# Altium footprint library Microshemy.PcbLib: 30 footprints (part 2 of 2)
Each footprint in its own frame and in the unit in brackets; x right, y up, seen from the top. Pads: shape width x height; smd on the part's side, far side on the other; paste and mask are expansions set on the pad; w line width, h text height; cw(c..) or ccw(c..) is an arc to the next point about the centre after c.
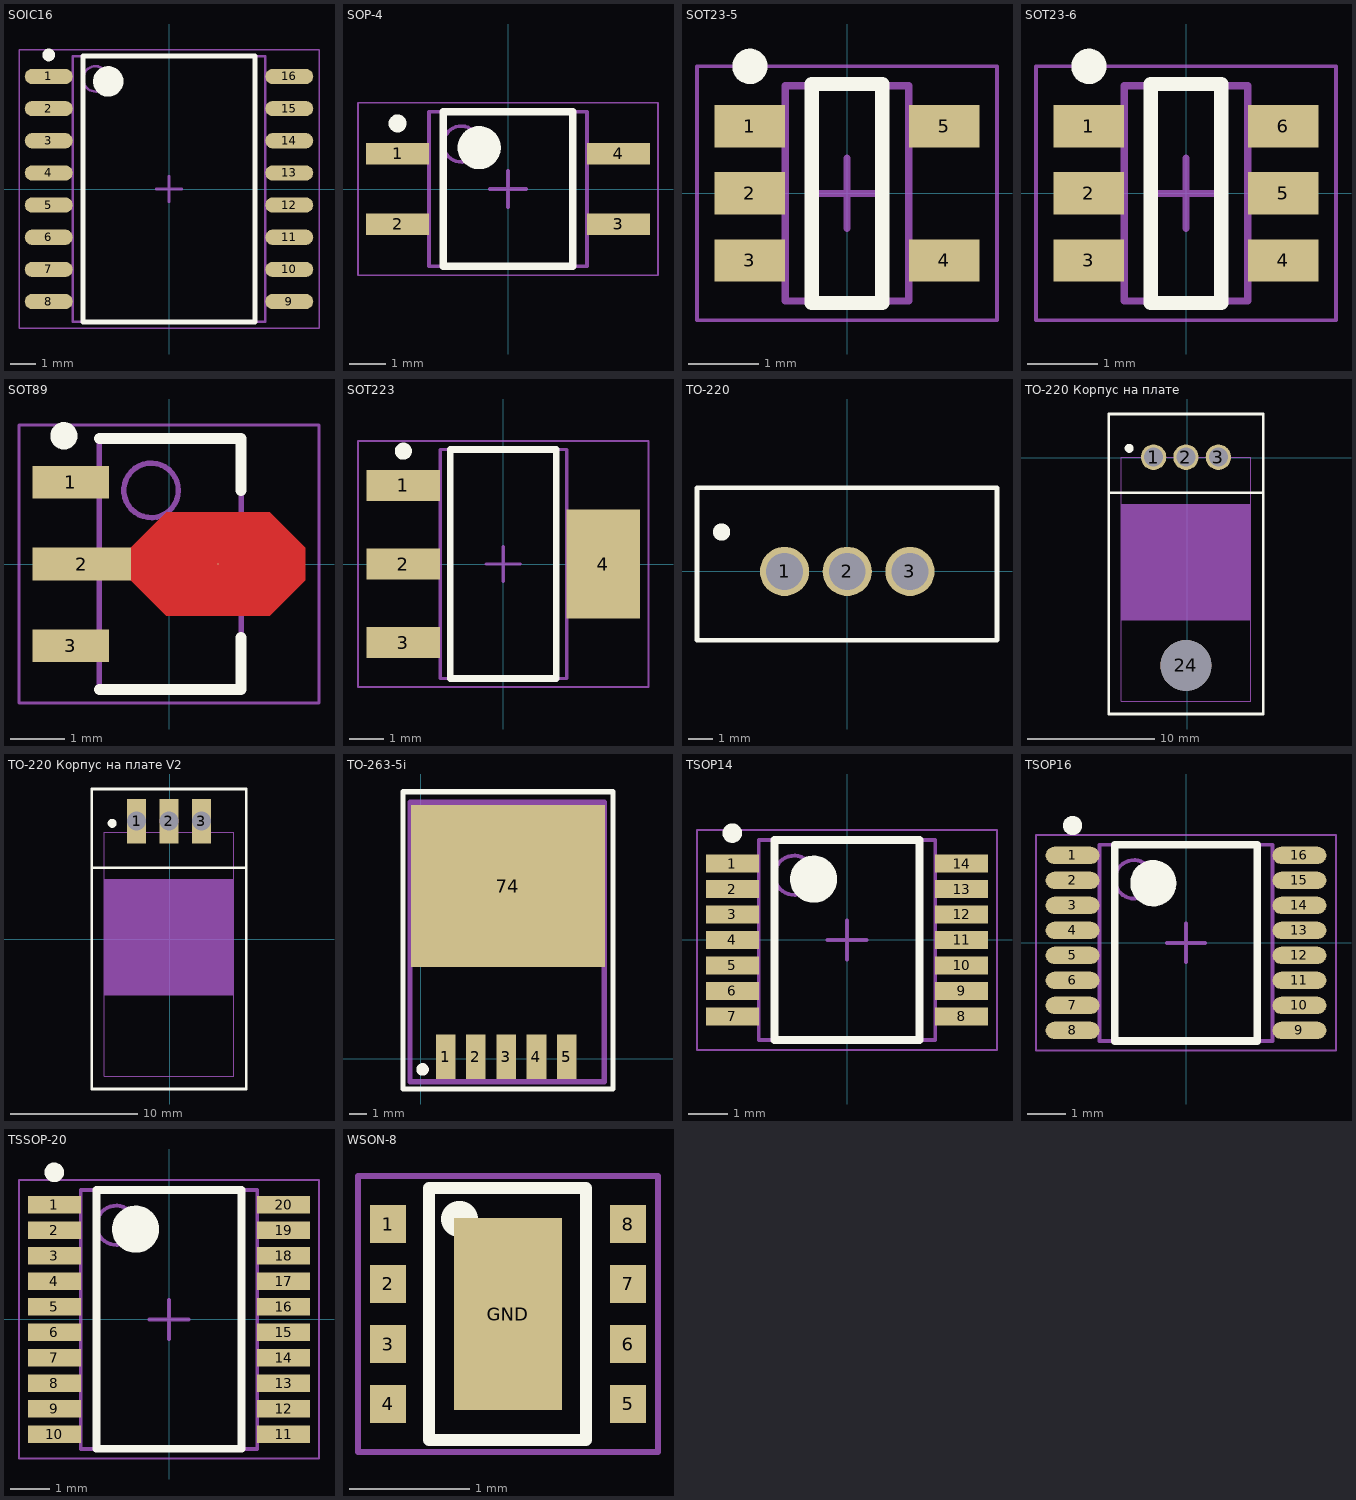
[diagram p1: the footprints below, top view; thin cyan lines are the x and y axes]

## SOIC16 [mm]
height 2.6
pads (16):
  oval 1.9x0.6 smd: 1(-4.75,4.445) 2(-4.75,3.175) 3(-4.75,1.905) 4(-4.75,0.635) 5(-4.75,-0.635) 6(-4.75,-1.905) 7(-4.75,-3.175) 8(-4.75,-4.445) 9(4.75,-4.445) 10(4.75,-3.175) 11(4.75,-1.905) 12(4.75,-0.635) 13(4.75,0.635) 14(4.75,1.905) 15(4.75,3.175) 16(4.75,4.445)
Top Overlay:
  circle w0.6: c-2.4,4.25 r0.3
  circle w0.25: c-4.75,5.295 r0.125
  lines w0.2: -3.4,-5.25 3.4,-5.25 3.4,5.25 -3.4,5.25 -3.4,-5.25
Mechanical 13:
  circle w0.1: c-2.9,4.35 r0.5
  lines w0.1: -3.8,-5.25 3.8,-5.25 3.8,5.25 -3.8,5.25 -3.8,-5.25
Mechanical 15:
  lines w0.05: -5.925,-5.5 5.925,-5.5 5.925,5.5 -5.925,5.5 -5.925,-5.5
  lines w0.1: -0.5,0 0.5,0 ; 0,-0.5 0,0.5
3D body "SOIC127P600-8N.step": height 2.6, standoff 0, extent -5.162,-5.25 5.162,5.25

## SOP-4 [mm] "SOP, 4-Leads, Body 4,10x4,40mm, Pitch 1,95mm, IPC Medium Density"
height 2
pads (4):
  rect 1.75x0.6 smd: 1(-3.075,0.975) 2(-3.075,-0.975) 3(3.075,-0.975) 4(3.075,0.975)
Top Overlay:
  circle w0.6: c-0.8,1.15 r0.3
  circle w0.25: c-3.075,1.825 r0.125
  lines w0.2: -1.8,-2.15 1.8,-2.15 1.8,2.15 -1.8,2.15 -1.8,-2.15
Mechanical 13:
  circle w0.1: c-1.3,1.25 r0.5
  lines w0.1: -2.2,-2.15 2.2,-2.15 2.2,2.15 -2.2,2.15 -2.2,-2.15
Mechanical 15:
  lines w0.05: -4.175,-2.4 4.175,-2.4 4.175,2.4 -4.175,2.4 -4.175,-2.4
  lines w0.1: -0.5,0 0.5,0 ; 0,-0.5 0,0.5
3D body "SOP195P700X200-4N.step": height 2, standoff 0, extent -3.5,-2.15 3.5,2.15

## SOT23-5 [mm]
height 1
pads (5):
  rect 1x0.6 smd: 1(-1.375,0.95) 2(-1.375,0) 3(-1.375,-0.95) 4(1.375,-0.95) 5(1.375,0.95)
Top Overlay:
  circle w0.25: c-1.375,1.8 r0.125
  lines w0.2: -0.5,-1.55 -0.5,1.55 0.5,1.55 0.5,-1.55 -0.5,-1.55
Mechanical 13:
  lines w0.1: -0.875,-1.525 0.875,-1.525 0.875,1.525 -0.875,1.525 -0.875,-1.525
Mechanical 15:
  lines w0.05: -2.125,-1.8 2.125,-1.8 2.125,1.8 -2.125,1.8 -2.125,-1.8
  lines w0.1: -0.5,0 0.5,0 ; 0,-0.5 0,0.5
3D body "SOT23127P600-8N.step": height 1, standoff 0, extent -1.525,-1.525 1.525,1.525

## SOT23-6 [mm]
height 1
pads (6):
  rect 1x0.6 smd: 1(-1.375,0.95) 2(-1.375,0) 3(-1.375,-0.95) 4(1.375,-0.95) 5(1.375,0) 6(1.375,0.95)
Top Overlay:
  circle w0.25: c-1.375,1.8 r0.125
  lines w0.2: -0.5,-1.55 -0.5,1.55 0.5,1.55 0.5,-1.55 -0.5,-1.55
Mechanical 13:
  lines w0.1: -0.875,-1.525 0.875,-1.525 0.875,1.525 -0.875,1.525 -0.875,-1.525
Mechanical 15:
  lines w0.05: -2.125,-1.8 2.125,-1.8 2.125,1.8 -2.125,1.8 -2.125,-1.8
  lines w0.1: -0.5,0 0.5,0 ; 0,-0.5 0,0.5
3D body "SOT23127P600-8N.step": height 1, standoff 0, extent -1.525,-1.525 1.525,1.525

## SOT89 [mm] "SOT89, 3-Leads, Body 4,50x2,45mm, Pitch 1,50mm, Lead Span 4,1mm, IPC Medium Density"
height 1.6
pads (4):
  rect 1.4x0.6 smd: 1(-1.8,1.5) 3(-1.8,-1.5)
  rect 1.8x0.6 smd: 2(-1.6,0)
  round 0.025 smd mask+0.102: 2(0.9,0)
Top Layer:
  region: -0.7,0.3 -0.05,0.95 1.85,0.95 2.5,0.3 2.5,-0.3 1.85,-0.95 -0.05,-0.95 -0.7,-0.3
Top Overlay:
  circle w0.25: c-1.927,2.35 r0.125
  lines w0.2: -1.278,-2.3 1.322,-2.3 1.322,-1.35 ; -1.278,2.3 1.322,2.3 1.322,1.35
Mechanical 13:
  circle w0.1: c-0.327,1.35 r0.5
  lines w0.1: -1.278,-2.3 1.322,-2.3 1.322,2.3 -1.278,2.3 -1.278,-2.3
Mechanical 15:
  lines w0.05: -2.75,-2.55 2.75,-2.55 2.75,2.55 -2.75,2.55 -2.75,-2.55
  lines w0.1: -0.477,0 0.523,0 ; 0.022,-0.5 0.022,0.5
3D body "SOT89-150P410X160-3N.step": height 1.6, standoff 0, extent -2.2,-2.3 1.85,2.3

## SOT223 [mm] "SOT223, 4-Leads, Body 6,50x7,00mm (avg), Pitch 2,30mm, IPC Medium Density"
height 1.8
pads (4):
  rect 2.15x0.9 smd: 1(-2.925,2.3) 2(-2.925,0) 3(-2.925,-2.3)
  rect 2.15x3.2 smd: 4(2.925,0)
Top Overlay:
  circle w0.25: c-2.925,3.3 r0.125
  lines w0.2: -1.55,-3.35 1.55,-3.35 1.55,3.35 -1.55,3.35 -1.55,-3.35
Mechanical 13:
  lines w0.1: -1.85,-3.35 1.85,-3.35 1.85,3.35 -1.85,3.35 -1.85,-3.35
Mechanical 15:
  lines w0.05: -4.25,-3.6 4.25,-3.6 4.25,3.6 -4.25,3.6 -4.25,-3.6
  lines w0.1: -0.5,0 0.5,0 ; 0,-0.5 0,0.5
3D body "SOT223.step": height 1.8, standoff 0, extent -3.5,-3.35 3.5,3.35

## TO-220 [mm]
pads (3):
  round 2 hole 1.5: 1(-2.54,0) 2(0.01,0) 3(2.56,0)
Top Overlay:
  circle w0.5: c-5.1,1.6 r0.1
  lines w0.2: -6.1,-2.8 -6.1,3.4 6.1,3.4 6.1,-2.8 -6.1,-2.8
3D body: height 3, standoff -2, extent -3.19,-0.25 -1.89,0.25
3D body: height 3, standoff -2, extent 1.89,-0.25 3.19,0.25
3D body: height 3, standoff -2, extent -0.65,-0.25 0.65,0.25

## TO-220 Корпус на плате [mm] "Корпус ледит на плате радиатором сверху"
pads (4):
  round 2 hole 1.5: 1(-2.636,0.039) 2(-0.086,0.039) 3(2.464,0.039)
  round 4 hole 4: 24(-0.091,-16.348)
Top Overlay:
  lines w0.2: -6.176,-20.16 -6.176,-2.761 ; -6.166,-20.17 6.01,-20.17 6.01,-2.761 ; -6.176,-2.761 6.01,-2.761 ; -6.176,-2.761 -6.176,3.439 6.01,3.439 6.01,-2.761
  lines w0.5: -4.467,0.785 ccw(c-4.556,0.739) -4.456,0.739
Mechanical 15:
  pour cut-out: -5.18,-3.66 5.01,-3.66 5.01,-12.75 5,-12.76 -5.18,-12.76
  lines w0.05: 5.01,-3.65 5.01,-12.75 ; -5.18,-12.759 -5.18,-3.66 ; -5.18,-12.76 -5.18,-19.16 5.01,-19.16 5.01,-12.75 ; -5.18,-12.759 5.01,-12.75 ; -5.18,-3.66 -5.18,-2.66 -5.18,0.04 5.01,0.04 5.01,-3.66 -5.18,-3.66
3D body: height 3, standoff -2, extent -0.746,-0.211 0.554,0.289
3D body: height 3, standoff -2, extent 1.794,-0.211 3.094,0.289
3D body: height 3, standoff -2, extent -3.286,-0.211 -1.986,0.289
3D body: height 0.3, standoff 0, extent -5.18,-12.76 5.01,-3.66
3D body: height 0.25, standoff 0, extent -5.18,-19.16 5.01,-12.75

## TO-220 Корпус на плате V2 [mm]
pads (3):
  rect 1.5x3.5 hole 1.5: 1(-2.596,9.299) 2(-0.046,9.299) 3(2.504,9.299)
Top Overlay:
  lines w0.2: -6.136,-11.78 -6.136,5.619 ; -6.126,-11.79 6.05,-11.79 6.05,5.619 ; -6.136,5.619 6.05,5.619 ; -6.136,5.619 -6.136,11.819 6.05,11.819 6.05,5.619
  lines w0.5: -4.427,9.165 ccw(c-4.516,9.119) -4.416,9.119
Mechanical 15:
  pour cut-out: -5.14,4.72 5.05,4.72 5.05,-4.37 5.04,-4.38 -5.14,-4.38
  lines w0.05: -5.14,-4.38 -5.14,-10.78 5.05,-10.78 5.05,-4.37 ; 5.05,4.73 5.05,-4.37 ; -5.14,4.72 -5.14,-4.379 5.05,-4.37 ; -5.14,4.72 -5.14,5.72 -5.14,8.42 5.05,8.42 5.05,4.72 -5.14,4.72
3D body: height 0.3, standoff 0, extent -5.14,-4.38 5.05,4.72
3D body: height 0.25, standoff 0, extent -5.14,-10.78 5.05,-4.37
3D body: height 3, standoff -2, extent -0.706,9.049 0.594,9.549
3D body: height 3, standoff -2, extent 1.834,9.049 3.134,9.549
3D body: height 3, standoff -2, extent -3.246,9.049 -1.946,9.549

## TO-263-5i [mm]
pads (6):
  rect 1.1x2.5 smd: 1(1.4,0.1) 2(3.1,0.1) 3(4.8,0.1) 4(6.5,0.1) 5(8.2,0.1)
  rect 10.9x9.1 smd: 74(4.9,9.7)
Top Overlay:
  circle w0.5: c0.1,-0.6 r0.1
  lines w0.3: -1,-1.7 10.8,-1.7 10.8,15 -1,15 -1,-1.7
Mechanical 15:
  lines w0.3: -0.6,-1.3 10.3,-1.3 10.3,14.4 -0.6,14.4 -0.6,-1.3

## TSOP14 [mm] "TSOP, 14-Leads, Body 5,05x4,40mm, Pitch 0,65mm, IPC Medium Density"
height 1
pads (14):
  rect 1.35x0.45 smd: 1(-2.925,1.95) 2(-2.925,1.3) 3(-2.925,0.65) 4(-2.925,0) 5(-2.925,-0.65) 6(-2.925,-1.3) 7(-2.925,-1.95) 8(2.925,-1.95) 9(2.925,-1.3) 10(2.925,-0.65) 11(2.925,0) 12(2.925,0.65) 13(2.925,1.3) 14(2.925,1.95)
Top Overlay:
  circle w0.25: c-2.925,2.725 r0.125
  circle w0.6: c-0.85,1.55 r0.3
  lines w0.2: -1.85,-2.55 -1.85,2.55 1.85,2.55 1.85,-2.55 -1.85,-2.55
Mechanical 13:
  circle w0.1: c-1.35,1.65 r0.5
  lines w0.1: -2.25,-2.55 -2.25,2.55 2.25,2.55 2.25,-2.55 -2.25,-2.55
Mechanical 15:
  lines w0.05: -3.825,-2.8 -3.825,2.8 3.825,2.8 3.825,-2.8 -3.825,-2.8
  lines w0.1: -0.5,0 0.5,0 ; 0,-0.5 0,0.5
3D body "TSOP14.step": height 1, standoff 0.01, extent -3.148,-2.55 3.148,2.55

## TSOP16 [mm]
height 1.2
pads (16):
  oval 1.4x0.45 smd: 1(-2.95,2.275) 2(-2.95,1.625) 3(-2.95,0.975) 4(-2.95,0.325) 5(-2.95,-0.325) 6(-2.95,-0.975) 7(-2.95,-1.625) 8(-2.95,-2.275) 9(2.95,-2.275) 10(2.95,-1.625) 11(2.95,-0.975) 12(2.95,-0.325) 13(2.95,0.325) 14(2.95,0.975) 15(2.95,1.625) 16(2.95,2.275)
Top Overlay:
  circle w0.6: c-0.85,1.55 r0.3
  circle w0.25: c-2.95,3.05 r0.125
  lines w0.2: -1.85,-2.55 1.85,-2.55 1.85,2.55 -1.85,2.55 -1.85,-2.55
Mechanical 13:
  circle w0.1: c-1.35,1.65 r0.5
  lines w0.1: -2.25,-2.55 2.25,-2.55 2.25,2.55 -2.25,2.55 -2.25,-2.55
Mechanical 15:
  lines w0.05: -3.9,-2.8 3.9,-2.8 3.9,2.8 -3.9,2.8 -3.9,-2.8
  lines w0.1: -0.5,0 0.5,0 ; 0,-0.5 0,0.5
3D body "SOP127P600-8N.step": height 1.2, standoff 0, extent -3.2,-2.55 3.2,2.55

## TSSOP-20 [mm]
height 0.9
pads (20):
  rect 1.35x0.45 smd: 1(-2.925,2.925) 2(-2.925,2.275) 3(-2.925,1.625) 4(-2.925,0.975) 5(-2.925,0.325) 6(-2.925,-0.325) 7(-2.925,-0.975) 8(-2.925,-1.625) 9(-2.925,-2.275) 10(-2.925,-2.925) 11(2.925,-2.925) 12(2.925,-2.275) 13(2.925,-1.625) 14(2.925,-0.975) 15(2.925,-0.325) 16(2.925,0.325) 17(2.925,0.975) 18(2.925,1.625) 19(2.925,2.275) 20(2.925,2.925)
Top Overlay:
  circle w0.25: c-2.925,3.75 r0.125
  circle w0.6: c-0.85,2.3 r0.3
  lines w0.2: -1.85,-3.3 -1.85,3.3 1.85,3.3 1.85,-3.3 -1.85,-3.3
Mechanical 13:
  circle w0.1: c-1.35,2.4 r0.5
  lines w0.1: -2.25,-3.3 -2.25,3.3 2.25,3.3 2.25,-3.3 -2.25,-3.3
Mechanical 15:
  lines w0.05: -3.825,-3.55 -3.825,3.55 3.825,3.55 3.825,-3.55 -3.825,-3.55
  lines w0.1: -0.5,0 0.5,0 ; 0,-0.5 0,0.5
3D body "SOP127P600-8N.step": height 0.9, standoff 0.01, extent -3.148,-3.3 3.148,3.3

## WSON-8 [mm]
pads (9):
  rect 0.3x0.32 / inner round 0 / far side round 0 all layers, no hole mask+0.08: 1(0.5,2.17) 2(0.5,1.67) 3(0.5,1.17) 4(0.5,0.67) 5(2.5,0.67) 6(2.5,1.17) 7(2.5,1.67) 8(2.5,2.17)
  rect 0.9x1.6 / inner rect 0x0 / far side rect 0x0 all layers, no hole: GND(1.5,1.42)
Top Overlay:
  lines w0.1: 0.84,0.37 0.84,2.47 2.15,2.47 2.15,0.37 0.84,0.37
  lines w0.3: 1.09,2.21 1.1,2.21
Mechanical 15:
  lines w0.05: 0.25,0.27 2.75,0.27 2.75,2.57 0.25,2.57 0.25,0.27
3D body: height 0.25, standoff 0, extent 0.45,0.37 2.55,2.47